# Altium integrated library Actel ProASIC3.IntLib: 465 symbols (part 4 of 68)
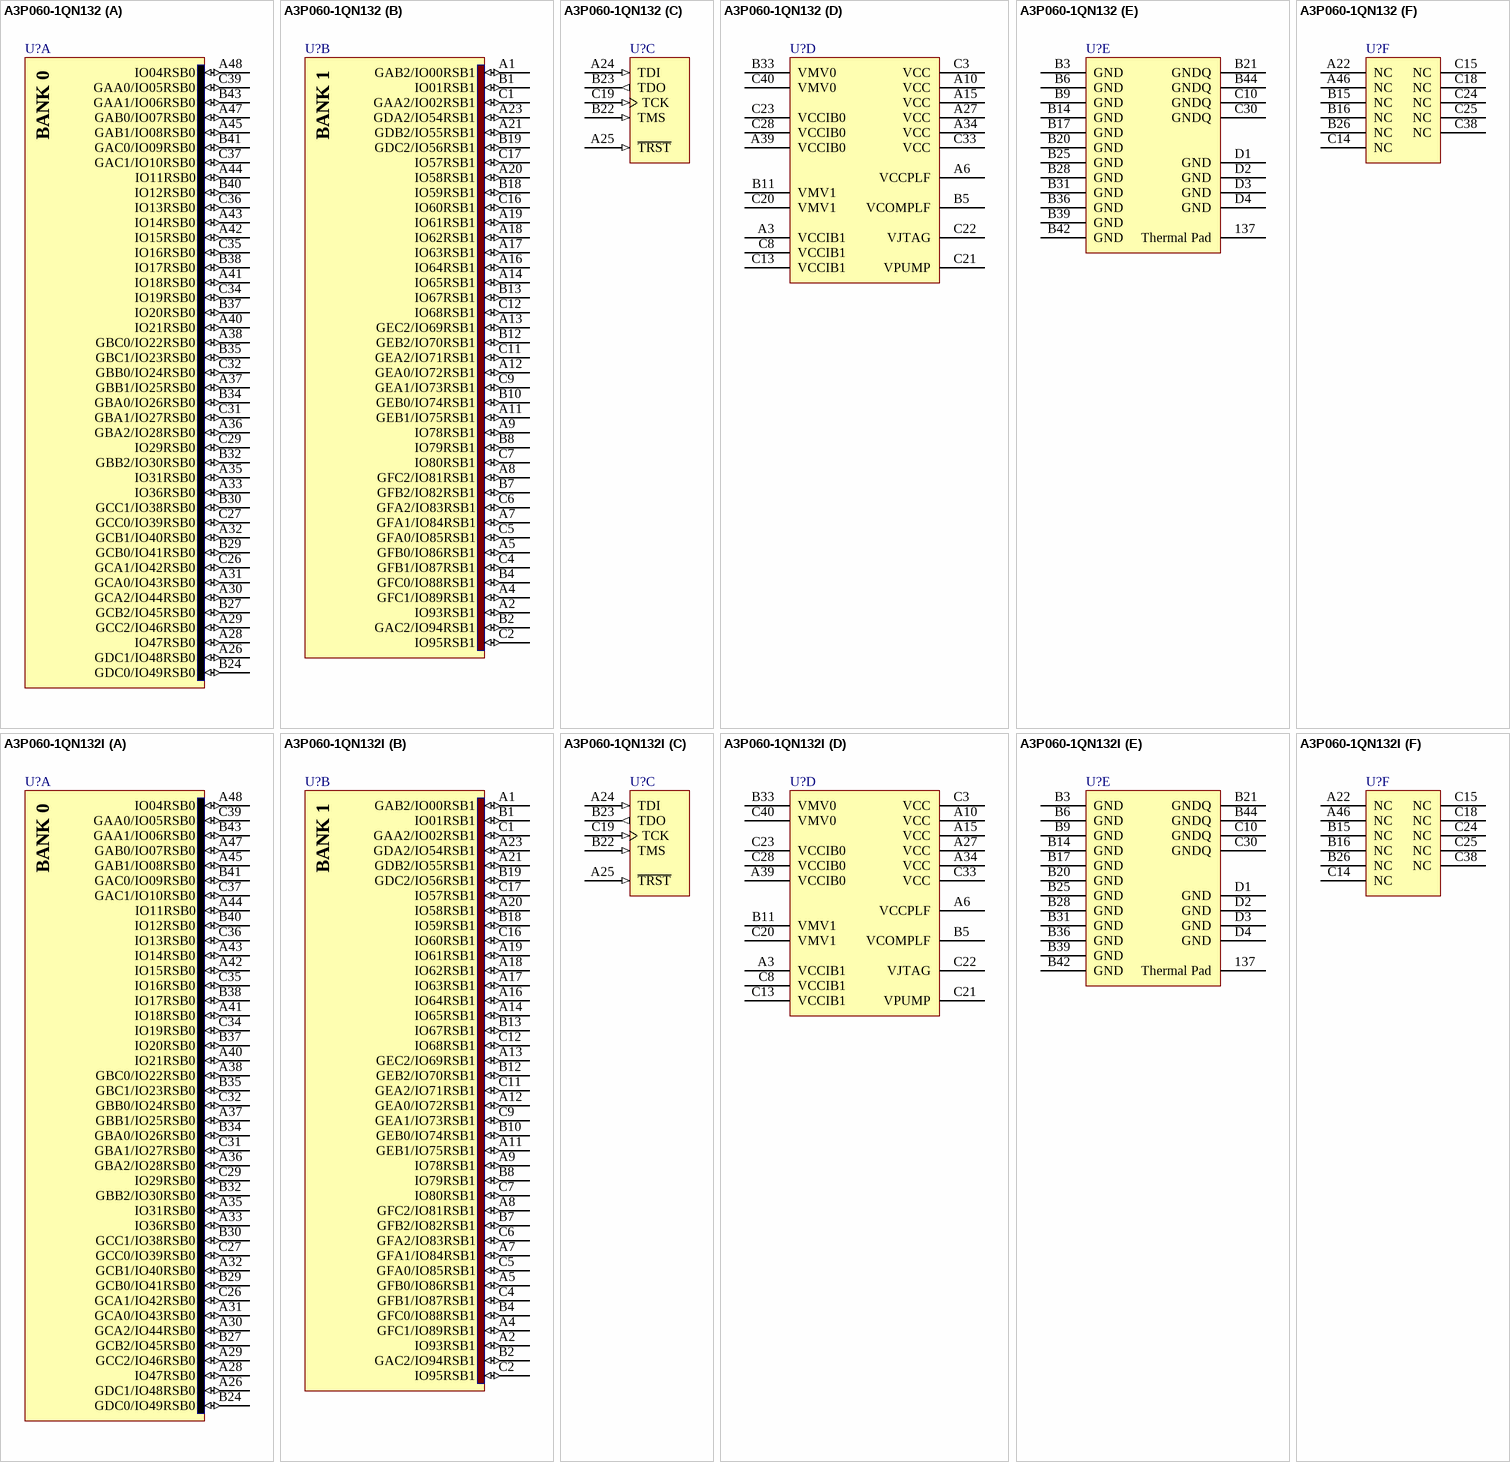
[diagram p425: symbols A3P060-1QN132 to A3P060-1QN132I]

## A3P060-1QN132
designator U?
ProASIC3 Flash Family FPGA, 80 User IOs, 60K System Gates, 18 Kbits RAM, 1 Kbit ProASIC3 Flash ROM, 1 PLL, 132-Pin QFN, Commercial Grade; Published: 30-Mar-2007; LatestRevisionDate: 11-Dec-2009; LatestRevisionNote: Updated to datasheet version 1.3 Oct-2009.; DatasheetVersion: v1.3, Oct-2009; PackageVersion: ver11.2, Nov-2009; PackageReference: QN132; Publisher: Altium Limited; PackageDescription: 132-Pin Quad Flat Pack No-Leads (QN132); ComponentLink1Description: ProASIC3 Datasheet; ComponentLink1URL: http://www.actel.com/documents/PA3_DS.pdf; ComponentLink2Description: Package Mechanical Drawings; ComponentLink2URL: http://www.actel.com/documents/PckgMechDrwngs.pdf; ComponentLink3Description: ProASIC3 Documents; ComponentLink3URL: http://www.actel.com/products/pa3/docs.aspx; ComponentLink4Description: Actel.com Home; ComponentLink4URL: http://www.actel.com/
footprint QN132 (QFN, 132-Leads, Body 8x8mm, Pitch 0.5mm)
signal-integrity model A3P060_QN132 (ProASIC3)
part A pins: A26 GDC1/IO48RSB0 (io), A28 IO47RSB0 (io), A29 GCC2/IO46RSB0 (io), A30 GCA2/IO44RSB0 (io), A31 GCA0/IO43RSB0 (io), A32 GCB1/IO40RSB0 (io), A33 IO36RSB0 (io), A35 IO31RSB0 (io), A36 GBA2/IO28RSB0 (io), A37 GBB1/IO25RSB0 (io), A38 GBC0/IO22RSB0 (io), A40 IO21RSB0 (io), A41 IO18RSB0 (io), A42 IO15RSB0 (io), A43 IO14RSB0 (io), A44 IO11RSB0 (io), A45 GAB1/IO08RSB0 (io), A47 GAB0/IO07RSB0 (io), A48 IO04RSB0 (io), B24 GDC0/IO49RSB0 (io), B27 GCB2/IO45RSB0 (io), B29 GCB0/IO41RSB0 (io), B30 GCC1/IO38RSB0 (io), B32 GBB2/IO30RSB0 (io), B34 GBA0/IO26RSB0 (io), B35 GBC1/IO23RSB0 (io), B37 IO20RSB0 (io), B38 IO17RSB0 (io), B40 IO12RSB0 (io), B41 GAC0/IO09RSB0 (io), B43 GAA1/IO06RSB0 (io), C26 GCA1/IO42RSB0 (io), C27 GCC0/IO39RSB0 (io), C29 IO29RSB0 (io), C31 GBA1/IO27RSB0 (io), C32 GBB0/IO24RSB0 (io), C34 IO19RSB0 (io), C35 IO16RSB0 (io), C36 IO13RSB0 (io), C37 GAC1/IO10RSB0 (io), C39 GAA0/IO05RSB0 (io)
part B pins: A1 GAB2/IO00RSB1 (io), A2 IO93RSB1 (io), A4 GFC1/IO89RSB1 (io), A5 GFB0/IO86RSB1 (io), A7 GFA1/IO84RSB1 (io), A8 GFC2/IO81RSB1 (io), A9 IO78RSB1 (io), A11 GEB1/IO75RSB1 (io), A12 GEA0/IO72RSB1 (io), A13 GEC2/IO69RSB1 (io), A14 IO65RSB1 (io), A16 IO64RSB1 (io), A17 IO63RSB1 (io), A18 IO62RSB1 (io), A19 IO61RSB1 (io), A20 IO58RSB1 (io), A21 GDB2/IO55RSB1 (io), A23 GDA2/IO54RSB1 (io), B1 IO01RSB1 (io), B2 GAC2/IO94RSB1 (io), B4 GFC0/IO88RSB1 (io), B7 GFB2/IO82RSB1 (io), B8 IO79RSB1 (io), B10 GEB0/IO74RSB1 (io), B12 GEB2/IO70RSB1 (io), B13 IO67RSB1 (io), B18 IO59RSB1 (io), B19 GDC2/IO56RSB1 (io), C1 GAA2/IO02RSB1 (io), C2 IO95RSB1 (io), C4 GFB1/IO87RSB1 (io), C5 GFA0/IO85RSB1 (io), C6 GFA2/IO83RSB1 (io), C7 IO80RSB1 (io), C9 GEA1/IO73RSB1 (io), C11 GEA2/IO71RSB1 (io), C12 IO68RSB1 (io), C16 IO60RSB1 (io), C17 IO57RSB1 (io)
part C pins: A24 TDI (in), A25 ~{TRST} (in), B22 TMS (in), B23 TDO (out), C19 TCK (in)
part D pins: A3 VCCIB1 (power), A6 VCCPLF (power), A10 VCC (power), A15 VCC (power), A27 VCC (power), A34 VCC (power), A39 VCCIB0 (power), B5 VCOMPLF (power), B11 VMV1 (power), B33 VMV0 (power), C3 VCC (power), C8 VCCIB1 (power), C13 VCCIB1 (power), C20 VMV1 (power), C21 VPUMP (power), C22 VJTAG (power), C23 VCCIB0 (power), C28 VCCIB0 (power), C33 VCC (power), C40 VMV0 (power)
part E pins: 137 Thermal Pad (power), B3 GND (power), B6 GND (power), B9 GND (power), B14 GND (power), B17 GND (power), B20 GND (power), B21 GNDQ (power), B25 GND (power), B28 GND (power), B31 GND (power), B36 GND (power), B39 GND (power), B42 GND (power), B44 GNDQ (power), C10 GNDQ (power), C30 GNDQ (power), D1 GND (power), D2 GND (power), D3 GND (power), D4 GND (power)
part F pins: A22 NC, A46 NC, B15 NC, B16 NC, B26 NC, C14 NC, C15 NC, C18 NC, C24 NC, C25 NC, C38 NC
part A text: BANK 0
part B text: BANK 1

## A3P060-1QN132I
designator U?
ProASIC3 Flash Family FPGA, 80 User IOs, 60K System Gates, 18 Kbits RAM, 1 Kbit ProASIC3 Flash ROM, 1 PLL, 132-Pin QFN, Industrial Grade; Published: 30-Mar-2007; LatestRevisionDate: 11-Dec-2009; LatestRevisionNote: Updated to datasheet version 1.3 Oct-2009.; DatasheetVersion: v1.3, Oct-2009; PackageVersion: ver11.2, Nov-2009; PackageReference: QN132; Publisher: Altium Limited; PackageDescription: 132-Pin Quad Flat Pack No-Leads (QN132); ComponentLink1Description: ProASIC3 Datasheet; ComponentLink1URL: http://www.actel.com/documents/PA3_DS.pdf; ComponentLink2Description: Package Mechanical Drawings; ComponentLink2URL: http://www.actel.com/documents/PckgMechDrwngs.pdf; ComponentLink3Description: ProASIC3 Documents; ComponentLink3URL: http://www.actel.com/products/pa3/docs.aspx; ComponentLink4Description: Actel.com Home; ComponentLink4URL: http://www.actel.com/
footprint QN132 (QFN, 132-Leads, Body 8x8mm, Pitch 0.5mm)
signal-integrity model A3P060_QN132 (ProASIC3)
part A pins: A26 GDC1/IO48RSB0 (io), A28 IO47RSB0 (io), A29 GCC2/IO46RSB0 (io), A30 GCA2/IO44RSB0 (io), A31 GCA0/IO43RSB0 (io), A32 GCB1/IO40RSB0 (io), A33 IO36RSB0 (io), A35 IO31RSB0 (io), A36 GBA2/IO28RSB0 (io), A37 GBB1/IO25RSB0 (io), A38 GBC0/IO22RSB0 (io), A40 IO21RSB0 (io), A41 IO18RSB0 (io), A42 IO15RSB0 (io), A43 IO14RSB0 (io), A44 IO11RSB0 (io), A45 GAB1/IO08RSB0 (io), A47 GAB0/IO07RSB0 (io), A48 IO04RSB0 (io), B24 GDC0/IO49RSB0 (io), B27 GCB2/IO45RSB0 (io), B29 GCB0/IO41RSB0 (io), B30 GCC1/IO38RSB0 (io), B32 GBB2/IO30RSB0 (io), B34 GBA0/IO26RSB0 (io), B35 GBC1/IO23RSB0 (io), B37 IO20RSB0 (io), B38 IO17RSB0 (io), B40 IO12RSB0 (io), B41 GAC0/IO09RSB0 (io), B43 GAA1/IO06RSB0 (io), C26 GCA1/IO42RSB0 (io), C27 GCC0/IO39RSB0 (io), C29 IO29RSB0 (io), C31 GBA1/IO27RSB0 (io), C32 GBB0/IO24RSB0 (io), C34 IO19RSB0 (io), C35 IO16RSB0 (io), C36 IO13RSB0 (io), C37 GAC1/IO10RSB0 (io), C39 GAA0/IO05RSB0 (io)
part B pins: A1 GAB2/IO00RSB1 (io), A2 IO93RSB1 (io), A4 GFC1/IO89RSB1 (io), A5 GFB0/IO86RSB1 (io), A7 GFA1/IO84RSB1 (io), A8 GFC2/IO81RSB1 (io), A9 IO78RSB1 (io), A11 GEB1/IO75RSB1 (io), A12 GEA0/IO72RSB1 (io), A13 GEC2/IO69RSB1 (io), A14 IO65RSB1 (io), A16 IO64RSB1 (io), A17 IO63RSB1 (io), A18 IO62RSB1 (io), A19 IO61RSB1 (io), A20 IO58RSB1 (io), A21 GDB2/IO55RSB1 (io), A23 GDA2/IO54RSB1 (io), B1 IO01RSB1 (io), B2 GAC2/IO94RSB1 (io), B4 GFC0/IO88RSB1 (io), B7 GFB2/IO82RSB1 (io), B8 IO79RSB1 (io), B10 GEB0/IO74RSB1 (io), B12 GEB2/IO70RSB1 (io), B13 IO67RSB1 (io), B18 IO59RSB1 (io), B19 GDC2/IO56RSB1 (io), C1 GAA2/IO02RSB1 (io), C2 IO95RSB1 (io), C4 GFB1/IO87RSB1 (io), C5 GFA0/IO85RSB1 (io), C6 GFA2/IO83RSB1 (io), C7 IO80RSB1 (io), C9 GEA1/IO73RSB1 (io), C11 GEA2/IO71RSB1 (io), C12 IO68RSB1 (io), C16 IO60RSB1 (io), C17 IO57RSB1 (io)
part C pins: A24 TDI (in), A25 ~{TRST} (in), B22 TMS (in), B23 TDO (out), C19 TCK (in)
part D pins: A3 VCCIB1 (power), A6 VCCPLF (power), A10 VCC (power), A15 VCC (power), A27 VCC (power), A34 VCC (power), A39 VCCIB0 (power), B5 VCOMPLF (power), B11 VMV1 (power), B33 VMV0 (power), C3 VCC (power), C8 VCCIB1 (power), C13 VCCIB1 (power), C20 VMV1 (power), C21 VPUMP (power), C22 VJTAG (power), C23 VCCIB0 (power), C28 VCCIB0 (power), C33 VCC (power), C40 VMV0 (power)
part E pins: 137 Thermal Pad (power), B3 GND (power), B6 GND (power), B9 GND (power), B14 GND (power), B17 GND (power), B20 GND (power), B21 GNDQ (power), B25 GND (power), B28 GND (power), B31 GND (power), B36 GND (power), B39 GND (power), B42 GND (power), B44 GNDQ (power), C10 GNDQ (power), C30 GNDQ (power), D1 GND (power), D2 GND (power), D3 GND (power), D4 GND (power)
part F pins: A22 NC, A46 NC, B15 NC, B16 NC, B26 NC, C14 NC, C15 NC, C18 NC, C24 NC, C25 NC, C38 NC
part A text: BANK 0
part B text: BANK 1

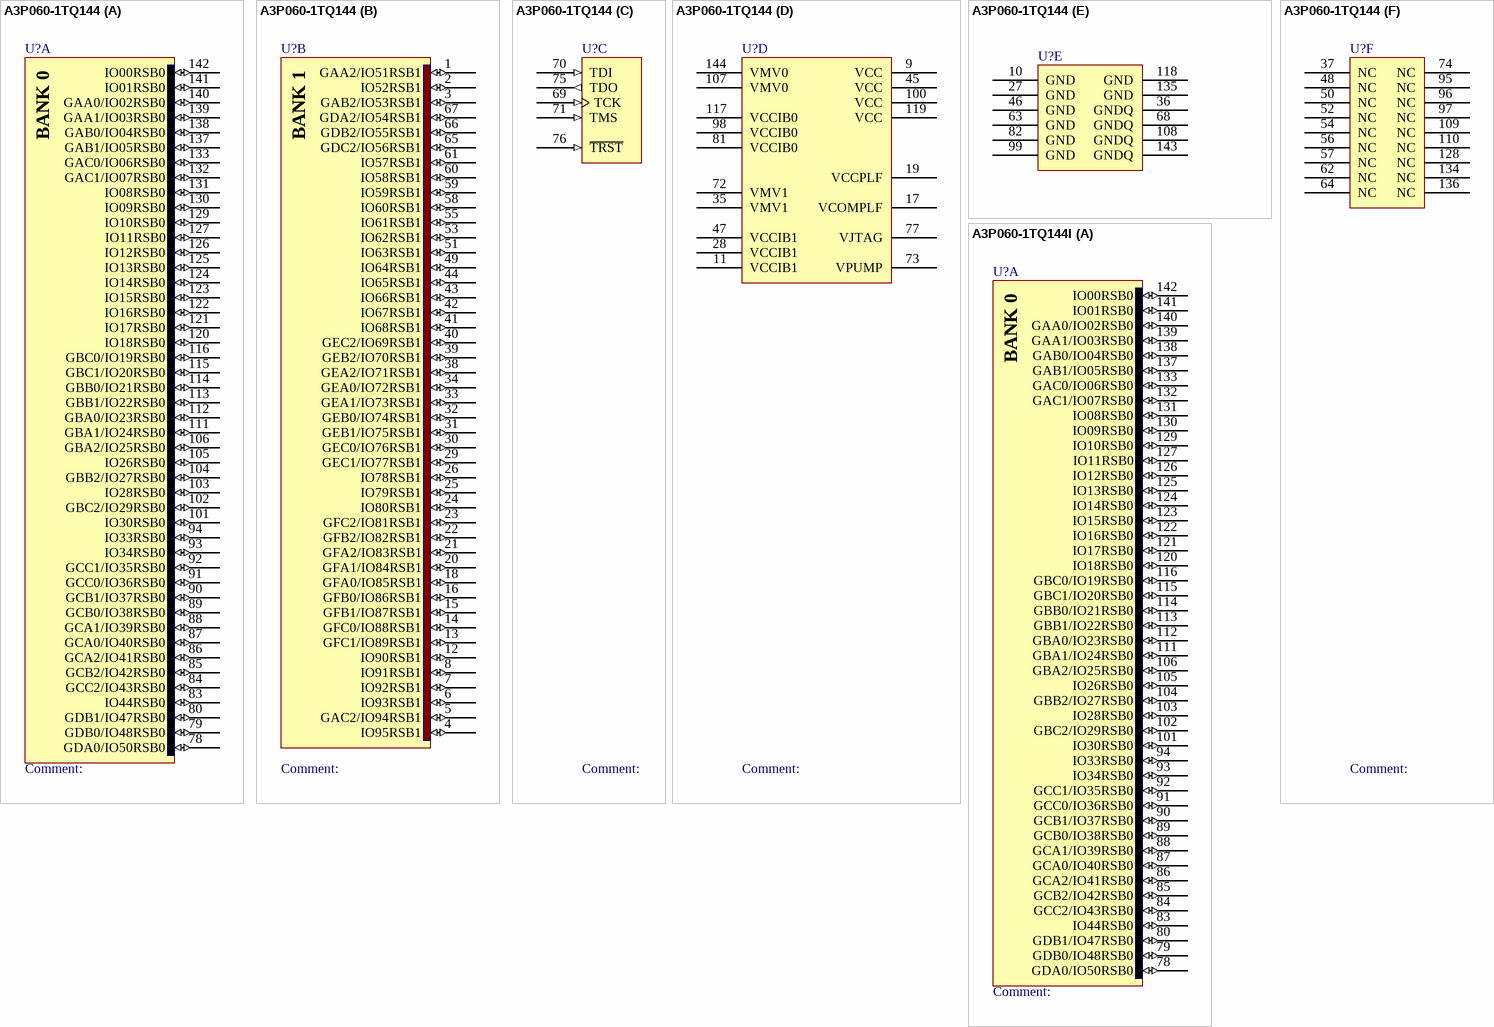
[diagram p18: symbols A3P060-1TQ144 to A3P060-1TQ144I]

## A3P060-1TQ144
designator U?
ProASIC3 Flash Family FPGA, 91 User IOs, 60K System Gates, 18 Kbits RAM, 1 Kbit Flash ROM, 1 PLL, 144-Pin TQFP, Commercial Grade; Published: 4-Mar-2005; LatestRevisionDate: 11-Dec-2009; LatestRevisionNote: Updated to datasheet version 1.3 Oct-2009.; DatasheetVersion: v1.3, Oct-2009; PackageVersion: ver11.2, Nov-2009; PackageReference: TQ144; Publisher: Altium Limited; PackageDescription: 144-Pin Plastic Quad Flat Pack (TQ144); Code_JEDEC: MS-026-BFB; ComponentLink1Description: ProASIC3 Datasheet; ComponentLink1URL: http://www.actel.com/documents/PA3_DS.pdf; ComponentLink2Description: Package Mechanical Drawings; ComponentLink2URL: http://www.actel.com/documents/PckgMechDrwngs.pdf; ComponentLink3Description: ProASIC3 Documents; ComponentLink3URL: http://www.actel.com/products/pa3/docs.aspx; ComponentLink4Description: Actel.com Home; ComponentLink4URL: http://www.actel.com/
footprint TQ144_N (Thin QFP, 144-Leads, Body 20x20mm, Pitch 0.5mm, IPC Medium Density)
footprint TQ144_L (Thin QFP, 144-Leads, Body 20x20mm, Pitch 0.5mm, IPC High Density)
footprint TQ144_M (Thin QFP, 144-Leads, Body 20x20mm, Pitch 0.5mm, IPC Low Density)
signal-integrity model A3P060_TQ144 (ProASIC3)
part A pins: 78 GDA0/IO50RSB0 (io), 79 GDB0/IO48RSB0 (io), 80 GDB1/IO47RSB0 (io), 83 IO44RSB0 (io), 84 GCC2/IO43RSB0 (io), 85 GCB2/IO42RSB0 (io), 86 GCA2/IO41RSB0 (io), 87 GCA0/IO40RSB0 (io), 88 GCA1/IO39RSB0 (io), 89 GCB0/IO38RSB0 (io), 90 GCB1/IO37RSB0 (io), 91 GCC0/IO36RSB0 (io), 92 GCC1/IO35RSB0 (io), 93 IO34RSB0 (io), 94 IO33RSB0 (io), 101 IO30RSB0 (io), 102 GBC2/IO29RSB0 (io), 103 IO28RSB0 (io), 104 GBB2/IO27RSB0 (io), 105 IO26RSB0 (io), 106 GBA2/IO25RSB0 (io), 111 GBA1/IO24RSB0 (io), 112 GBA0/IO23RSB0 (io), 113 GBB1/IO22RSB0 (io), 114 GBB0/IO21RSB0 (io), 115 GBC1/IO20RSB0 (io), 116 GBC0/IO19RSB0 (io), 120 IO18RSB0 (io), 121 IO17RSB0 (io), 122 IO16RSB0 (io), 123 IO15RSB0 (io), 124 IO14RSB0 (io), 125 IO13RSB0 (io), 126 IO12RSB0 (io), 127 IO11RSB0 (io), 129 IO10RSB0 (io), 130 IO09RSB0 (io), 131 IO08RSB0 (io), 132 GAC1/IO07RSB0 (io), 133 GAC0/IO06RSB0 (io), 137 GAB1/IO05RSB0 (io), 138 GAB0/IO04RSB0 (io), 139 GAA1/IO03RSB0 (io), 140 GAA0/IO02RSB0 (io), 141 IO01RSB0 (io), 142 IO00RSB0 (io)
part B pins: 1 GAA2/IO51RSB1 (io), 2 IO52RSB1 (io), 3 GAB2/IO53RSB1 (io), 4 IO95RSB1 (io), 5 GAC2/IO94RSB1 (io), 6 IO93RSB1 (io), 7 IO92RSB1 (io), 8 IO91RSB1 (io), 12 IO90RSB1 (io), 13 GFC1/IO89RSB1 (io), 14 GFC0/IO88RSB1 (io), 15 GFB1/IO87RSB1 (io), 16 GFB0/IO86RSB1 (io), 18 GFA0/IO85RSB1 (io), 20 GFA1/IO84RSB1 (io), 21 GFA2/IO83RSB1 (io), 22 GFB2/IO82RSB1 (io), 23 GFC2/IO81RSB1 (io), 24 IO80RSB1 (io), 25 IO79RSB1 (io), 26 IO78RSB1 (io), 29 GEC1/IO77RSB1 (io), 30 GEC0/IO76RSB1 (io), 31 GEB1/IO75RSB1 (io), 32 GEB0/IO74RSB1 (io), 33 GEA1/IO73RSB1 (io), 34 GEA0/IO72RSB1 (io), 38 GEA2/IO71RSB1 (io), 39 GEB2/IO70RSB1 (io), 40 GEC2/IO69RSB1 (io), 41 IO68RSB1 (io), 42 IO67RSB1 (io), 43 IO66RSB1 (io), 44 IO65RSB1 (io), 49 IO64RSB1 (io), 51 IO63RSB1 (io), 53 IO62RSB1 (io), 55 IO61RSB1 (io), 58 IO60RSB1 (io), 59 IO59RSB1 (io), 60 IO58RSB1 (io), 61 IO57RSB1 (io), 65 GDC2/IO56RSB1 (io), 66 GDB2/IO55RSB1 (io), 67 GDA2/IO54RSB1 (io)
part C pins: 69 TCK (in), 70 TDI (in), 71 TMS (in), 75 TDO (out), 76 ~{TRST} (in)
part D pins: 9 VCC (power), 11 VCCIB1 (power), 17 VCOMPLF (power), 19 VCCPLF (power), 28 VCCIB1 (power), 35 VMV1 (power), 45 VCC (power), 47 VCCIB1 (power), 72 VMV1 (power), 73 VPUMP (power), 77 VJTAG (power), 81 VCCIB0 (power), 98 VCCIB0 (power), 100 VCC (power), 107 VMV0 (power), 117 VCCIB0 (power), 119 VCC (power), 144 VMV0 (power)
part E pins: 10 GND (power), 27 GND (power), 36 GNDQ (power), 46 GND (power), 63 GND (power), 68 GNDQ (power), 82 GND (power), 99 GND (power), 108 GNDQ (power), 118 GND (power), 135 GND (power), 143 GNDQ (power)
part F pins: 37 NC, 48 NC, 50 NC, 52 NC, 54 NC, 56 NC, 57 NC, 62 NC, 64 NC, 74 NC, 95 NC, 96 NC, 97 NC, 109 NC, 110 NC, 128 NC, 134 NC, 136 NC
part A text: BANK 0
part B text: BANK 1

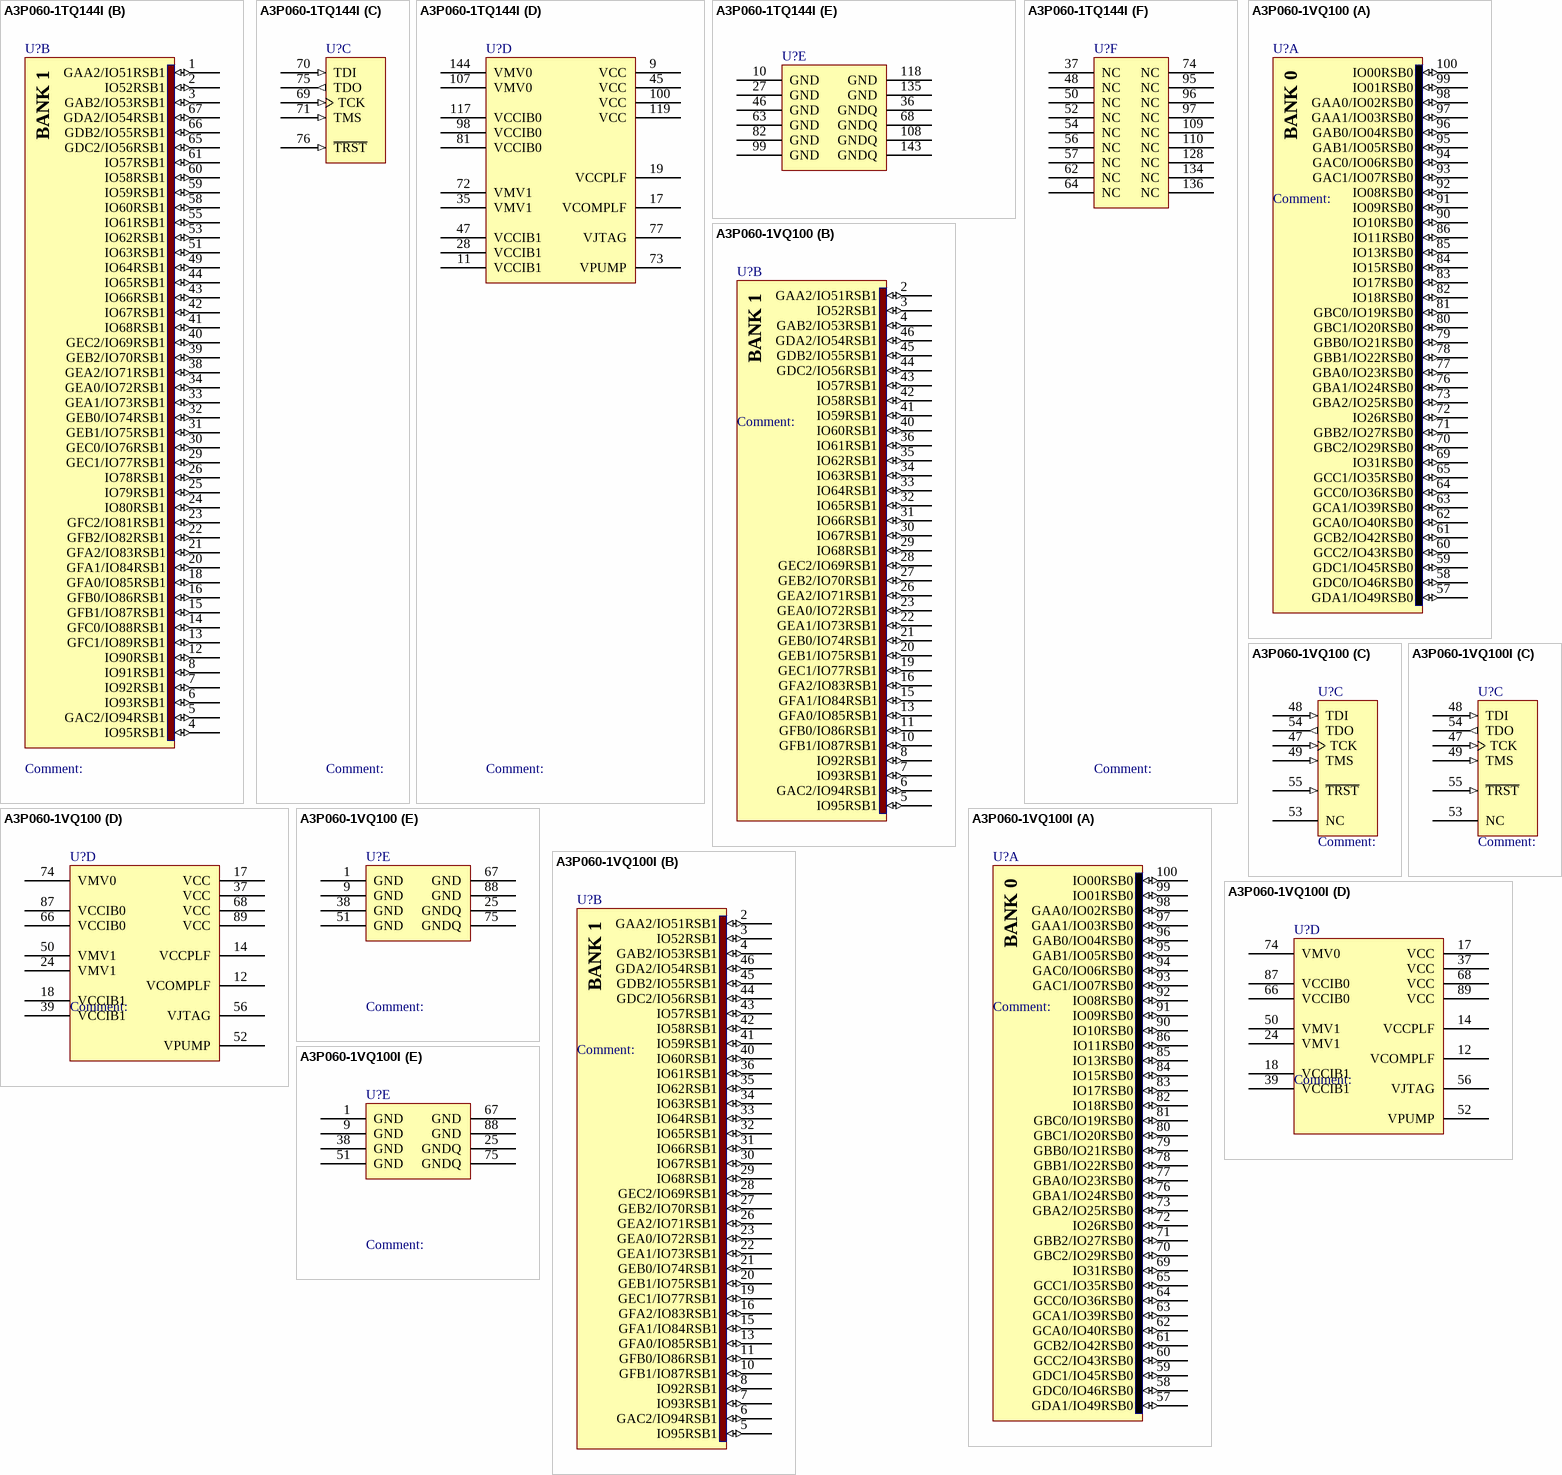
[diagram p19: symbols A3P060-1TQ144I to A3P060-1VQ100I]

## A3P060-1TQ144I
designator U?
ProASIC3 Flash Family FPGA, 91 User IOs, 60K System Gates, 18 Kbits RAM, 1 Kbit Flash ROM, 1 PLL, 144-Pin TQFP, Industrial Grade; Published: 4-Mar-2005; LatestRevisionDate: 11-Dec-2009; LatestRevisionNote: Updated to datasheet version 1.3 Oct-2009.; DatasheetVersion: v1.3, Oct-2009; PackageVersion: ver11.2, Nov-2009; PackageReference: TQ144; Publisher: Altium Limited; PackageDescription: 144-Pin Plastic Quad Flat Pack (TQ144); Code_JEDEC: MS-026-BFB; ComponentLink1Description: ProASIC3 Datasheet; ComponentLink1URL: http://www.actel.com/documents/PA3_DS.pdf; ComponentLink2Description: Package Mechanical Drawings; ComponentLink2URL: http://www.actel.com/documents/PckgMechDrwngs.pdf; ComponentLink3Description: ProASIC3 Documents; ComponentLink3URL: http://www.actel.com/products/pa3/docs.aspx; ComponentLink4Description: Actel.com Home; ComponentLink4URL: http://www.actel.com/
footprint TQ144_N (Thin QFP, 144-Leads, Body 20x20mm, Pitch 0.5mm, IPC Medium Density)
footprint TQ144_L (Thin QFP, 144-Leads, Body 20x20mm, Pitch 0.5mm, IPC High Density)
footprint TQ144_M (Thin QFP, 144-Leads, Body 20x20mm, Pitch 0.5mm, IPC Low Density)
signal-integrity model A3P060_TQ144 (ProASIC3)
part A pins: 78 GDA0/IO50RSB0 (io), 79 GDB0/IO48RSB0 (io), 80 GDB1/IO47RSB0 (io), 83 IO44RSB0 (io), 84 GCC2/IO43RSB0 (io), 85 GCB2/IO42RSB0 (io), 86 GCA2/IO41RSB0 (io), 87 GCA0/IO40RSB0 (io), 88 GCA1/IO39RSB0 (io), 89 GCB0/IO38RSB0 (io), 90 GCB1/IO37RSB0 (io), 91 GCC0/IO36RSB0 (io), 92 GCC1/IO35RSB0 (io), 93 IO34RSB0 (io), 94 IO33RSB0 (io), 101 IO30RSB0 (io), 102 GBC2/IO29RSB0 (io), 103 IO28RSB0 (io), 104 GBB2/IO27RSB0 (io), 105 IO26RSB0 (io), 106 GBA2/IO25RSB0 (io), 111 GBA1/IO24RSB0 (io), 112 GBA0/IO23RSB0 (io), 113 GBB1/IO22RSB0 (io), 114 GBB0/IO21RSB0 (io), 115 GBC1/IO20RSB0 (io), 116 GBC0/IO19RSB0 (io), 120 IO18RSB0 (io), 121 IO17RSB0 (io), 122 IO16RSB0 (io), 123 IO15RSB0 (io), 124 IO14RSB0 (io), 125 IO13RSB0 (io), 126 IO12RSB0 (io), 127 IO11RSB0 (io), 129 IO10RSB0 (io), 130 IO09RSB0 (io), 131 IO08RSB0 (io), 132 GAC1/IO07RSB0 (io), 133 GAC0/IO06RSB0 (io), 137 GAB1/IO05RSB0 (io), 138 GAB0/IO04RSB0 (io), 139 GAA1/IO03RSB0 (io), 140 GAA0/IO02RSB0 (io), 141 IO01RSB0 (io), 142 IO00RSB0 (io)
part B pins: 1 GAA2/IO51RSB1 (io), 2 IO52RSB1 (io), 3 GAB2/IO53RSB1 (io), 4 IO95RSB1 (io), 5 GAC2/IO94RSB1 (io), 6 IO93RSB1 (io), 7 IO92RSB1 (io), 8 IO91RSB1 (io), 12 IO90RSB1 (io), 13 GFC1/IO89RSB1 (io), 14 GFC0/IO88RSB1 (io), 15 GFB1/IO87RSB1 (io), 16 GFB0/IO86RSB1 (io), 18 GFA0/IO85RSB1 (io), 20 GFA1/IO84RSB1 (io), 21 GFA2/IO83RSB1 (io), 22 GFB2/IO82RSB1 (io), 23 GFC2/IO81RSB1 (io), 24 IO80RSB1 (io), 25 IO79RSB1 (io), 26 IO78RSB1 (io), 29 GEC1/IO77RSB1 (io), 30 GEC0/IO76RSB1 (io), 31 GEB1/IO75RSB1 (io), 32 GEB0/IO74RSB1 (io), 33 GEA1/IO73RSB1 (io), 34 GEA0/IO72RSB1 (io), 38 GEA2/IO71RSB1 (io), 39 GEB2/IO70RSB1 (io), 40 GEC2/IO69RSB1 (io), 41 IO68RSB1 (io), 42 IO67RSB1 (io), 43 IO66RSB1 (io), 44 IO65RSB1 (io), 49 IO64RSB1 (io), 51 IO63RSB1 (io), 53 IO62RSB1 (io), 55 IO61RSB1 (io), 58 IO60RSB1 (io), 59 IO59RSB1 (io), 60 IO58RSB1 (io), 61 IO57RSB1 (io), 65 GDC2/IO56RSB1 (io), 66 GDB2/IO55RSB1 (io), 67 GDA2/IO54RSB1 (io)
part C pins: 69 TCK (in), 70 TDI (in), 71 TMS (in), 75 TDO (out), 76 ~{TRST} (in)
part D pins: 9 VCC (power), 11 VCCIB1 (power), 17 VCOMPLF (power), 19 VCCPLF (power), 28 VCCIB1 (power), 35 VMV1 (power), 45 VCC (power), 47 VCCIB1 (power), 72 VMV1 (power), 73 VPUMP (power), 77 VJTAG (power), 81 VCCIB0 (power), 98 VCCIB0 (power), 100 VCC (power), 107 VMV0 (power), 117 VCCIB0 (power), 119 VCC (power), 144 VMV0 (power)
part E pins: 10 GND (power), 27 GND (power), 36 GNDQ (power), 46 GND (power), 63 GND (power), 68 GNDQ (power), 82 GND (power), 99 GND (power), 108 GNDQ (power), 118 GND (power), 135 GND (power), 143 GNDQ (power)
part F pins: 37 NC, 48 NC, 50 NC, 52 NC, 54 NC, 56 NC, 57 NC, 62 NC, 64 NC, 74 NC, 95 NC, 96 NC, 97 NC, 109 NC, 110 NC, 128 NC, 134 NC, 136 NC
part A text: BANK 0
part B text: BANK 1